# Altium schematic symbol library DC_DC_LM2596.SchLib: 1 symbol
Pins are listed as number, name and electrical type; pins without a type are passive.

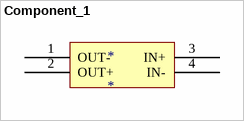
[diagram p0: symbol Component_1]

## Component_1
designator *
footprint LM2596
pins: 1 OUT-, 2 OUT+, 3 IN+, 4 IN-